# Altium footprint library PSM_REV_C.PcbLib: 21 footprints (part 2 of 2)
Each footprint in its own frame and in the unit in brackets; x right, y up, seen from the top. Pads: shape width x height; smd on the part's side, far side on the other; paste and mask are expansions set on the pad; w line width, h text height; cw(c..) or ccw(c..) is an arc to the next point about the centre after c.
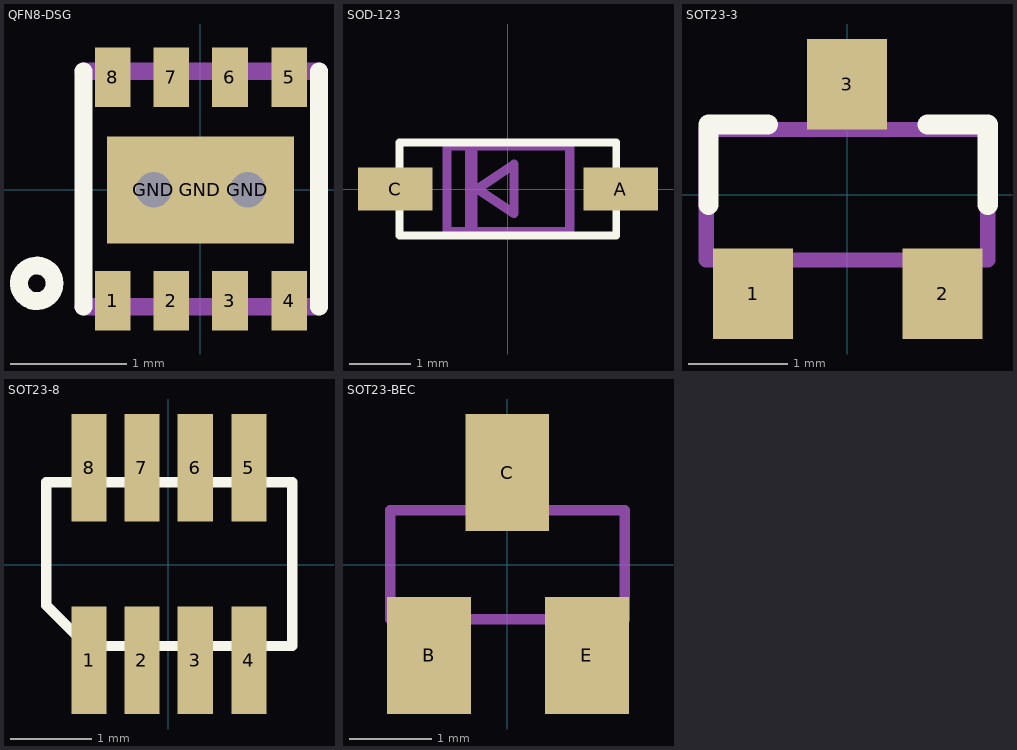
[diagram p1: the footprints below, top view; thin cyan lines are the x and y axes]

## QFN8-DSG [mil] "QFN8-DSG"
pads (11):
  rect 12x20 smd: 1(-29.53,-37.4) 2(-9.84,-37.4) 3(10,-37.4) 4(30,-37.4) 5(30,38) 6(10,38) 7(-9.84,38) 8(-29.53,38)
  rect 18x18 hole 12: GND(-15.75,0) GND(16,0)
  rect 63x36 smd: GND(0,0)
Top Overlay:
  circle w6: c-55.12,-31.5 r6
  lines w6: -39.37,-39.37 -39.37,40 ; 40,-39.37 40,40
Mechanical 16:
  lines w6: -39.37,-39.37 40,-39.37 ; -39.37,40 40,40
3D body: height 33.46, standoff 0, extent -39.37,-39.76 39.37,39.76

## SOD-123 [mil] "SOD-123"
pads (2):
  rect 48x28 smd: A(73,0) C(-72.83,0)
Top Overlay:
  lines w5: -70,-30 -70,30 70,30 70,-30 -70,-30
Mechanical 16:
  rectangle: -27.56,-27.56 -19.68,28
  lines w6: -39.37,-27.56 -39.37,28 40,28 40,-27.56 -39.37,-27.56 ; -19.68,0 4,-15.75 4,16 -19.68,0
3D body: height 35.43, standoff -3.54, extent -49.21,-24.21 49.21,25

## SOT23-3 [mil] "SOT23-3"
pads (3):
  rect 32x36 smd: 1(-37.4,-39.37) 2(38,-39.37) 3(0,44)
Top Overlay:
  lines w8: -55.12,-3.94 -55.12,28 -31.5,28 ; 32,28 56,28 56,-3.94
Mechanical 16:
  lines w6: -56,-26 -56,26 56,26 56,-26 -56,-26
3D body: height 51.18, standoff 0, extent -57.09,-55.12 57.09,55.12

## SOT23-8 [mil] "SOT23-8"
pads (8):
  rect 17x52 smd: 1(-38.39,-46.26) 2(-12.8,-46.26) 3(13,-46.26) 4(39,-46.26) 5(39,47) 6(13,47) 7(-12.8,47) 8(-38.39,47)
Top Overlay:
  lines w5: -59.06,-19.68 -39.37,-39.37 60,-39.37 60,40 -59.06,40 -59.06,-19.68
3D body: height 43.6, standoff 0, extent -59.05,-55.19 59.06,55.19

## SOT23-BEC [mil] "SOT23-BEC"
pads (3):
  rect 40x56 smd: B(-37.4,-43.31) C(0,44) E(38,-43.31)
Mechanical 16:
  rectangle: -46,-51 -28,-28
  rectangle: 28,-51 46,-28
  rectangle: -9,28 9,51
  lines w5: -56,-26 -56,26 56,26 56,-26 -56,-26
3D body: height 51.18, standoff 0, extent -57.09,-55.12 57.09,55.12